# Altium schematic symbol library JFD_Misc.SchLib: 8 symbols
Pins are listed as number, name and electrical type; pins without a type are passive.

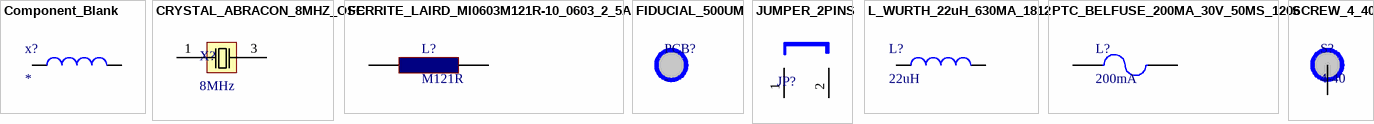
[diagram p0: symbols Component_Blank to SCREW_4_40]

## Component_Blank
designator x?
Mfg: *; MfgPartNumber: *; Value: *; Digikey: *
pins: 1, 2

## CRYSTAL_ABRACON_8MHZ_OSC
designator X?, comment 8MHz
CRYSTAL 8.000 MHZ 18PF SMD; MfgPartNumber: ABMM2-8.000MHZ-E2-T; Mfg: Abracon Corporation; Value: 8MHz; Digikey: 535-9628-1-ND
footprint ABBM2
pins: 1 A, 3 B

## FERRITE_LAIRD_MI0603M121R-10_0603_2_5A
designator L?, comment M121R
FERRITE CHIP 2.5A 120 OHM SMD; MfgPartNumber: MI0603M121R-10; Mfg: Laird-Signal Integrity Products; Value: M121R; Digikey: 240-2375-1-ND
footprint 0603
pins: 1, 2

## FIDUCIAL_500UM
designator PCB?, comment -  (no BOM)
Fiducial; Mfg: -; MfgPartNumber: -; Value: -; Digikey: -
footprint FIDUCIAL

## JUMPER_2PINS
designator JP?, comment 2PINS  (value not drawn)
CONN HEADER VERT SGL 2POS GOLD; MfgPartNumber: 961102-6404-AR; Mfg: 3M; Value: 2PINS; Digikey: 3M9447-ND
footprint JUMPER_2PINS
pins: 1, 2

## L_WURTH_22uH_630MA_1812
designator L?, comment 22uH
INDUCTOR WW 22UH .63A 1812 SMD; MfgPartNumber: 744045220; Mfg: Wurth Electronics Inc; Value: 22uH; Digikey: 732-3074-1-ND
footprint 1812L
pins: 1, 2

## PTC_BELFUSE_200MA_30V_50MS_1206
designator L?, comment 200mA
PTC RESTTBLE 0.20A 30V CHIP 1206; MfgPartNumber: 0ZCA0020FF2E; Mfg: Bel Fuse Inc; Value: 200mA; Digikey: 507-1478-1-ND
footprint 1206_PTC
pins: 1, 2

## SCREW_4_40
designator S?, comment 4-40
Mfg: -; MfgPartNumber: -; Value: 4-40; Digikey: -
footprint SCREW_4_40
pins: 0